# EAGLE library part CONN_20X2_LOCK (library Stepper Synth 2.4)
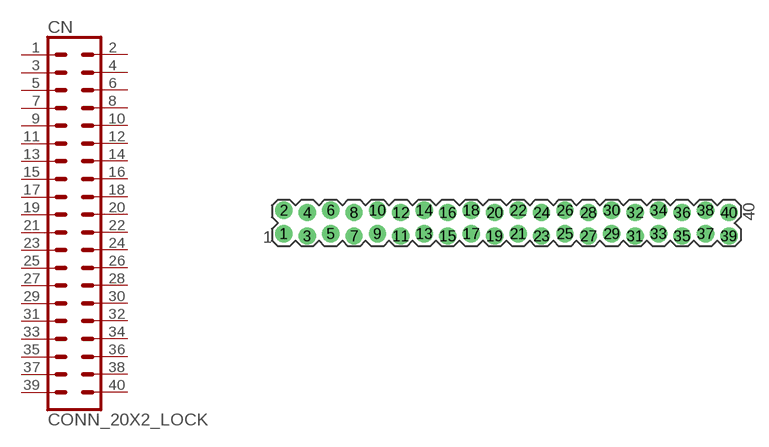
[diagram p5: symbol with the pads of 1X20_LOCK; footprint 1X20_LOCK]

Designator prefix CN

## CONN_20X2_LOCK  [1X20_LOCK]
1  1  pas
2  2  pas
3  3  pas
4  4  pas
5  5  pas
6  6  pas
7  7  pas
8  8  pas
9  9  pas
10  10  pas
11  11  pas
12  12  pas
13  13  pas
14  14  pas
15  15  pas
16  16  pas
17  17  pas
18  18  pas
19  19  pas
20  20  pas
21  21  pas
22  22  pas
23  23  pas
24  24  pas
25  25  pas
26  26  pas
27  27  pas
28  28  pas
29  29  pas
30  30  pas
31  31  pas
32  32  pas
33  33  pas
34  34  pas
35  35  pas
36  36  pas
37  37  pas
38  38  pas
39  39  pas
40  40  pas

## Footprint 1X20_LOCK (pad centres in mm)
Plated Through Hole -20 Pin Locking Footprint Holes are offset 0.005" from center to hold pins in place while soldering. Specifications: Pin count:20 Pin pitch:0.1" Example device(s): CONN_20
drill 1.016 pad 1.88: 1 0,0.127; 2 0,2.667; 3 2.54,-0.127; 4 2.54,2.413; 5 5.08,0.127; 6 5.08,2.667; 7 7.62,-0.127; 8 7.62,2.413; 9 10.16,0.127; 10 10.16,2.667; 11 12.7,-0.127; 12 12.7,2.413; 13 15.24,0.127; 14 15.24,2.667; 15 17.78,-0.127; 16 17.78,2.413; 17 20.32,0.127; 18 20.32,2.667; 19 22.86,-0.127; 20 22.86,2.413; 21 25.4,0.127; 22 25.4,2.667; 23 27.94,-0.127; 24 27.94,2.413; 25 30.48,0.127; 26 30.48,2.667; 27 33.02,-0.127; 28 33.02,2.413; 29 35.56,0.127; 30 35.56,2.667; 31 38.1,-0.127; 32 38.1,2.413; 33 40.64,0.127; 34 40.64,2.667; 35 43.18,-0.127; 36 43.18,2.413; 37 45.72,0.127; 38 45.72,2.667; 39 48.26,-0.127; 40 48.26,2.413